# Altium integrated library Linear Technology PMIC-Switching Reg LTC1174-LTC3901.IntLib: 2647 symbols (part 144 of 310)
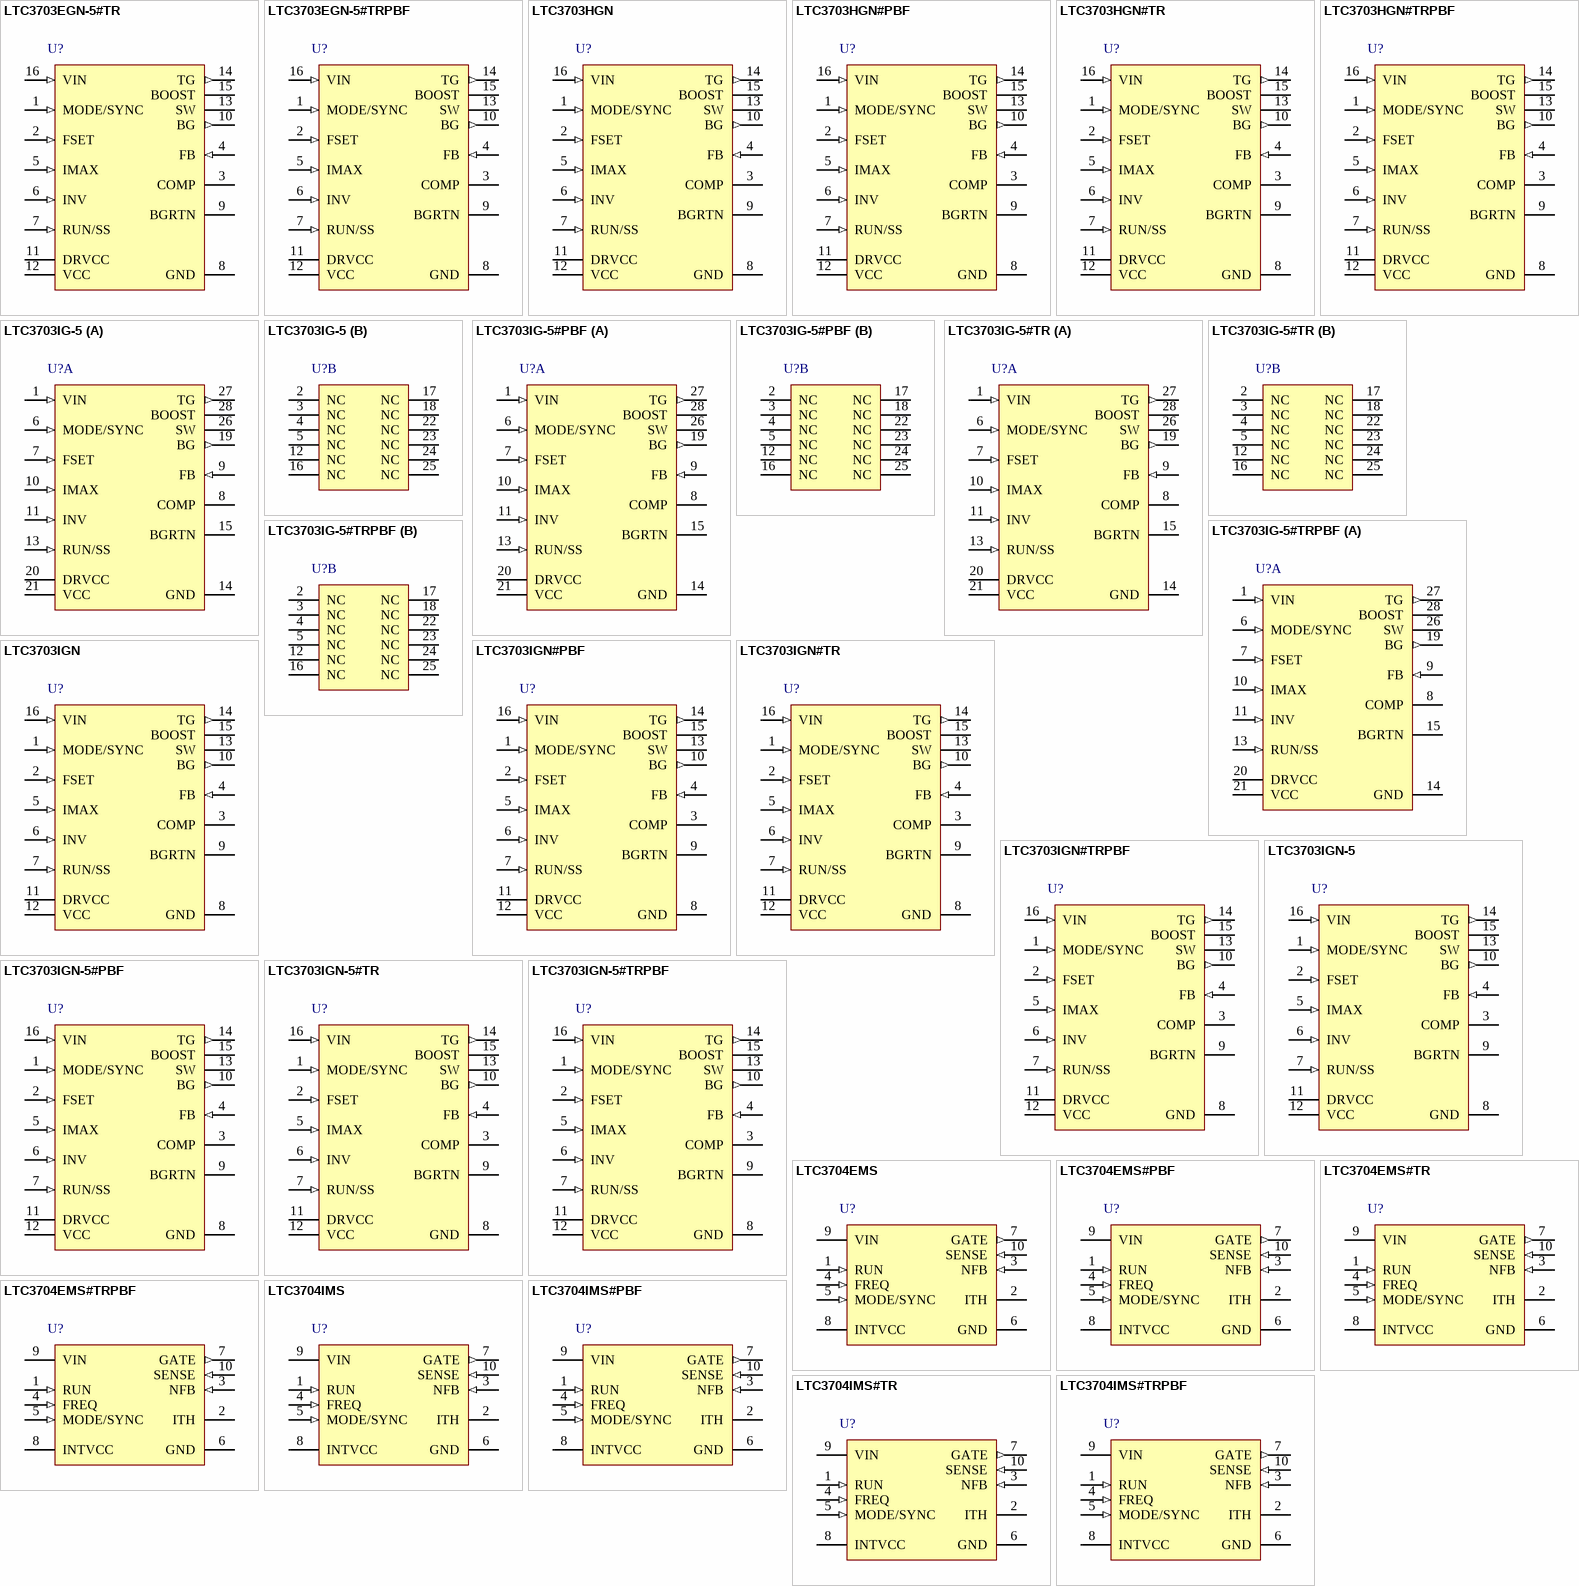
[diagram p197: symbols LTC3703EGN-5#TR to LTC3704IMS#TRPBF]

## LTC3703IG-5#TR
designator U?
Synchronous Switching Regulator Controller, 28-pin SOP (G-28), -40 to 125 degC, Tape and Reel; Manufacturer: Linear Technology; PartNumber: LTC3703IG-5#TR; Number of Outputs: 1; PackageReference: G-28; PackageDescription: 28-Pin Plastic SSOP, Body 10.2 x 5.3 mm, Pitch 0.65 mm; RoHS: FALSE
footprint LT-G-28_N (SOP, 28-Leads, Body 10.2x5.3mm, Pitch 0.65mm, IPC Medium Density)
footprint LT-G-28_L (SOP, 28-Leads, Body 10.2x5.3mm, Pitch 0.65mm, IPC High Density)
footprint LT-G-28_M (SOP, 28-Leads, Body 10.2x5.3mm, Pitch 0.65mm, IPC Low Density)
part A pins: 1 VIN (in) "Input Voltage Sense Pin. This pin is connected to the high voltage input of the regulator and is used by the internal feedforward compensation circuitry to improve line regulation. This is not a supply pin.", 6 MODE/SYNC (in) "Pulse Skip Mode Enable/Sync Pin. This multifunction pin provides Pulse Skip Mode enable/ disable control and an external clock input for synchronization of the internal oscillator. Pulling this pin below 0.8V or to an (See Datasheet)", 7 FSET (in) "Frequency Set. A resistor connected to this pin sets the free running frequency of the internal oscillator.", 8 COMP "Loop Compensation. This pin is connected directly to the output of the internal error amplifier. An RC network is used at the COMP pin to compensate the feedback loop for optimal transient response.", 9 FB (in) "Feedback Input. Connect FB through a resistor divider network to VOUT to set the output voltage. Also connect the loop compensation network from COMP to FB.", 10 IMAX (in) "Current Limit Set. The IMAX pin sets the current limit comparator threshold. If the voltage drop across the bottom MOSFET exceeds the magnitude of the voltage at IMAX, the controller goes into current limit. The IMAX pin has (See Datasheet)", 11 INV (in) "Top/Bottom Gate Invert. Pulling this pin above 2V sets the controller to operate in step-up (boost) mode with the TG output driving the synchronous MOSFET and the BG output driving the main switch. Below 1V, the controller (See Datasheet)", 13 RUN/SS (in) "Run/Soft-Start.", 14 GND (power) "Ground Pin.", 15 BGRTN "Bottom Gate Return. This pin connects to the source of the pull-down MOSFET in the BG driver and is normally connected to ground. Connecting a negative supply to this pin allows the synchronous MOSFET’s gate to be pulle(See Datasheet)", 19 BG (out) "Bottom Gate Drive. The BG pin drives the gate of the bottom N-channel synchronous switch MOSFET. This pin swings from BGRTN to DRVCC.", 20 DRVCC (power) "Driver Power Supply Pin. DRVCC provides power to the BG output driver. This pin should be connected to a voltage high enough to fully turn on the external MOSFETs, normally 4.5V to 15V for logic level threshold MOSFETs. (See Datasheet)", 21 VCC (power) "Main Supply Pin. All internal circuits except the output drivers are powered from this pin.", 26 SW "Switch Node Connection to Inductor and Bootstrap Capacitor. Voltage swing at this pin is from a Schottky diode (external) voltage drop below ground to VIN.", 27 TG (out) "Top Gate Drive. The TG pin drives the gate of the top N-channel synchronous switch MOSFET. The TG driver draws power from the BOOST pin and returns to the SW pin, providing true floating drive to the top MOSFET.", 28 BOOST "Top Gate Driver Supply. The BOOST pin supplies power to the floating TG driver. The BOOST pin should be bypassed to SW with a low ESR (X5R or better) 0.1uF ceramic capacitor. An additional fast recovery Schottky diode from (See Datasheet)"
part B pins: 2 NC, 3 NC, 4 NC, 5 NC, 12 NC, 16 NC, 17 NC, 18 NC, 22 NC, 23 NC, 24 NC, 25 NC

## LTC3703IG-5#TRPBF
designator U?
Synchronous Switching Regulator Controller, 28-pin SOP (G-28), -40 to 125 degC, Pb-Free, Tape and Reel; Manufacturer: Linear Technology; PartNumber: LTC3703IG-5#TRPBF; Number of Outputs: 1; PackageReference: G-28; PackageDescription: 28-Pin Plastic SSOP, Body 10.2 x 5.3 mm, Pitch 0.65 mm; Supplier 1: Digi-Key; Supplier Part Number 1: LTC3703IG-5#TRPBF-ND; RoHS: TRUE
footprint LT-G-28_N (SOP, 28-Leads, Body 10.2x5.3mm, Pitch 0.65mm, IPC Medium Density)
footprint LT-G-28_L (SOP, 28-Leads, Body 10.2x5.3mm, Pitch 0.65mm, IPC High Density)
footprint LT-G-28_M (SOP, 28-Leads, Body 10.2x5.3mm, Pitch 0.65mm, IPC Low Density)
part A pins: 1 VIN (in) "Input Voltage Sense Pin. This pin is connected to the high voltage input of the regulator and is used by the internal feedforward compensation circuitry to improve line regulation. This is not a supply pin.", 6 MODE/SYNC (in) "Pulse Skip Mode Enable/Sync Pin. This multifunction pin provides Pulse Skip Mode enable/ disable control and an external clock input for synchronization of the internal oscillator. Pulling this pin below 0.8V or to an (See Datasheet)", 7 FSET (in) "Frequency Set. A resistor connected to this pin sets the free running frequency of the internal oscillator.", 8 COMP "Loop Compensation. This pin is connected directly to the output of the internal error amplifier. An RC network is used at the COMP pin to compensate the feedback loop for optimal transient response.", 9 FB (in) "Feedback Input. Connect FB through a resistor divider network to VOUT to set the output voltage. Also connect the loop compensation network from COMP to FB.", 10 IMAX (in) "Current Limit Set. The IMAX pin sets the current limit comparator threshold. If the voltage drop across the bottom MOSFET exceeds the magnitude of the voltage at IMAX, the controller goes into current limit. The IMAX pin has (See Datasheet)", 11 INV (in) "Top/Bottom Gate Invert. Pulling this pin above 2V sets the controller to operate in step-up (boost) mode with the TG output driving the synchronous MOSFET and the BG output driving the main switch. Below 1V, the controller (See Datasheet)", 13 RUN/SS (in) "Run/Soft-Start.", 14 GND (power) "Ground Pin.", 15 BGRTN "Bottom Gate Return. This pin connects to the source of the pull-down MOSFET in the BG driver and is normally connected to ground. Connecting a negative supply to this pin allows the synchronous MOSFET’s gate to be pulle(See Datasheet)", 19 BG (out) "Bottom Gate Drive. The BG pin drives the gate of the bottom N-channel synchronous switch MOSFET. This pin swings from BGRTN to DRVCC.", 20 DRVCC (power) "Driver Power Supply Pin. DRVCC provides power to the BG output driver. This pin should be connected to a voltage high enough to fully turn on the external MOSFETs, normally 4.5V to 15V for logic level threshold MOSFETs. (See Datasheet)", 21 VCC (power) "Main Supply Pin. All internal circuits except the output drivers are powered from this pin.", 26 SW "Switch Node Connection to Inductor and Bootstrap Capacitor. Voltage swing at this pin is from a Schottky diode (external) voltage drop below ground to VIN.", 27 TG (out) "Top Gate Drive. The TG pin drives the gate of the top N-channel synchronous switch MOSFET. The TG driver draws power from the BOOST pin and returns to the SW pin, providing true floating drive to the top MOSFET.", 28 BOOST "Top Gate Driver Supply. The BOOST pin supplies power to the floating TG driver. The BOOST pin should be bypassed to SW with a low ESR (X5R or better) 0.1uF ceramic capacitor. An additional fast recovery Schottky diode from (See Datasheet)"
part B pins: 2 NC, 3 NC, 4 NC, 5 NC, 12 NC, 16 NC, 17 NC, 18 NC, 22 NC, 23 NC, 24 NC, 25 NC

## LTC3703IGN
designator U?
Synchronous Switching Regulator Controller, 16-pin SOP (GN-16), -40 to 150 degC; Manufacturer: Linear Technology; PartNumber: LTC3703IGN; Number of Outputs: 1; PackageReference: GN-16; PackageDescription: 16-Pin Plastic SSOP, Body 4.9 x 3.9 mm, Pitch 0.635 mm; RoHS: FALSE
footprint LT-GN-16_N (SOP, 16-Leads, Body 5x4mm, Pitch 0.635mm, IPC Medium Density)
footprint LT-GN-16_L (SOP, 16-Leads, Body 5x4mm, Pitch 0.635mm, IPC High Density)
footprint LT-GN-16_M (SOP, 16-Leads, Body 5x4mm, Pitch 0.635mm, IPC Low Density)
pins: 1 MODE/SYNC (in) "Pulse Skip Mode Enable/Sync Pin. This multifunction pin provides Pulse Skip Mode enable/disable control and an external clock input for synchronization of the internal oscillator. Pulling this pin below 0.8V or to an (See Datasheet)", 2 FSET (in) "Frequency Set. A resistor connected to this pin sets the free running frequency of the internal oscillator. See applications section for resistor value selection details.", 3 COMP "Loop Compensation. This pin is connected directly to the output of the internal error amplifier. An RC network is used at the COMP pin to compensate the feedback loop for optimal transient response.", 4 FB (in) "Feedback Input. Connect FB through a resistor divider network to VOUT to set the output voltage. Also connect the loop compensation network from COMP to FB.", 5 IMAX (in) "Current Limit Set. The IMAX pin sets the current limit comparator threshold. If the voltage drop across the bottom MOSFET exceeds the magnitude of the voltage at IMAX, the controller goes into current limit. The IMAX pin has (See Datasheet)", 6 INV (in) "Top/Bottom Gate Invert. Pulling this pin above 2V sets the controller to operate in step-up (boost) mode with the TG output driving the synchronous MOSFET and the BG output driving the main switch. Below 1V, the controller (See Datasheet)", 7 RUN/SS (in) "Run/Soft-Start. Pulling RUN/SS below 0.9V will shut down the LTC3703, turn off both of the external MOSFET switches and reduce the quiescent supply current to 50uA. A capacitor from RUN/SS to ground will control the turn-on (See Datasheet)", 8 GND (power) "Ground Pin.", 9 BGRTN "Bottom Gate Return. This pin connects to the source of the pull-down MOSFET in the BG driver and is normally connected to ground. Connecting negative supply to this pin allows the synchronous MOSFET’s gate to be pulle(See Datasheet)", 10 BG (out) "Bottom Gate Drive. The BG pin drives the gate of the bottom N-channel synchronous switch MOSFET. This pin swings from BGRTN to DRVCC.", 11 DRVCC (power) "Driver Power Supply Pin. DRVCC provides power to the BG output driver. This pin should be connected to a voltage high enough to fully turn on the external MOSFETs, normally 10V to 15V for logic level threshold MOSFETs. DRVCC (See Datasheet)", 12 VCC (power) "Main Supply Pin. All internal circuits except the output drivers are powered from this pin. VCC should be connected to a low noise power supply voltage between 9V and 15V and should be bypassed to GND (Pin 8) with at least a (See Datasheet)", 13 SW "Switch Node Connection to Inductor and Bootstrap Capacitor. Voltage swing at this pin is from a Schottky diode (external) voltage drop below ground VIN.", 14 TG (out) "Top Gate Drive. The TG pin drives the gate of the top N channel synchronous switch MOSFET. The TG driver draws power from the BOOST pin and returns the SW pin, providing true floating drive to the top MOSFET.", 15 BOOST "Top Gate Driver Supply. The BOOST pin supplies power to the floating TG driver. The BOOST pin should be bypassed to SW with a low ESR (X5R or better) 0.1uF ceramic capacitor. An additional fast recovery Schottky diode from (See Datasheet)", 16 VIN (in) "Input Voltage Sense Pin. This pin is connected to the high voltage input of the regulator and is used by the internal feedforward compensation circuitry to improve line regulation. This is not a supply pin."

## LTC3703IGN#PBF
designator U?
Synchronous Switching Regulator Controller, 16-pin SOP (GN-16), -40 to 150 degC, Pb-Free; Manufacturer: Linear Technology; PartNumber: LTC3703IGN#PBF; Number of Outputs: 1; PackageReference: GN-16; PackageDescription: 16-Pin Plastic SSOP, Body 4.9 x 3.9 mm, Pitch 0.635 mm; Supplier 1: Digi-Key; Supplier Part Number 1: LTC3703IGN#PBF-ND; RoHS: TRUE
footprint LT-GN-16_N (SOP, 16-Leads, Body 5x4mm, Pitch 0.635mm, IPC Medium Density)
footprint LT-GN-16_L (SOP, 16-Leads, Body 5x4mm, Pitch 0.635mm, IPC High Density)
footprint LT-GN-16_M (SOP, 16-Leads, Body 5x4mm, Pitch 0.635mm, IPC Low Density)
pins: 1 MODE/SYNC (in) "Pulse Skip Mode Enable/Sync Pin. This multifunction pin provides Pulse Skip Mode enable/disable control and an external clock input for synchronization of the internal oscillator. Pulling this pin below 0.8V or to an (See Datasheet)", 2 FSET (in) "Frequency Set. A resistor connected to this pin sets the free running frequency of the internal oscillator. See applications section for resistor value selection details.", 3 COMP "Loop Compensation. This pin is connected directly to the output of the internal error amplifier. An RC network is used at the COMP pin to compensate the feedback loop for optimal transient response.", 4 FB (in) "Feedback Input. Connect FB through a resistor divider network to VOUT to set the output voltage. Also connect the loop compensation network from COMP to FB.", 5 IMAX (in) "Current Limit Set. The IMAX pin sets the current limit comparator threshold. If the voltage drop across the bottom MOSFET exceeds the magnitude of the voltage at IMAX, the controller goes into current limit. The IMAX pin has (See Datasheet)", 6 INV (in) "Top/Bottom Gate Invert. Pulling this pin above 2V sets the controller to operate in step-up (boost) mode with the TG output driving the synchronous MOSFET and the BG output driving the main switch. Below 1V, the controller (See Datasheet)", 7 RUN/SS (in) "Run/Soft-Start. Pulling RUN/SS below 0.9V will shut down the LTC3703, turn off both of the external MOSFET switches and reduce the quiescent supply current to 50uA. A capacitor from RUN/SS to ground will control the turn-on (See Datasheet)", 8 GND (power) "Ground Pin.", 9 BGRTN "Bottom Gate Return. This pin connects to the source of the pull-down MOSFET in the BG driver and is normally connected to ground. Connecting negative supply to this pin allows the synchronous MOSFET’s gate to be pulle(See Datasheet)", 10 BG (out) "Bottom Gate Drive. The BG pin drives the gate of the bottom N-channel synchronous switch MOSFET. This pin swings from BGRTN to DRVCC.", 11 DRVCC (power) "Driver Power Supply Pin. DRVCC provides power to the BG output driver. This pin should be connected to a voltage high enough to fully turn on the external MOSFETs, normally 10V to 15V for logic level threshold MOSFETs. DRVCC (See Datasheet)", 12 VCC (power) "Main Supply Pin. All internal circuits except the output drivers are powered from this pin. VCC should be connected to a low noise power supply voltage between 9V and 15V and should be bypassed to GND (Pin 8) with at least a (See Datasheet)", 13 SW "Switch Node Connection to Inductor and Bootstrap Capacitor. Voltage swing at this pin is from a Schottky diode (external) voltage drop below ground VIN.", 14 TG (out) "Top Gate Drive. The TG pin drives the gate of the top N channel synchronous switch MOSFET. The TG driver draws power from the BOOST pin and returns the SW pin, providing true floating drive to the top MOSFET.", 15 BOOST "Top Gate Driver Supply. The BOOST pin supplies power to the floating TG driver. The BOOST pin should be bypassed to SW with a low ESR (X5R or better) 0.1uF ceramic capacitor. An additional fast recovery Schottky diode from (See Datasheet)", 16 VIN (in) "Input Voltage Sense Pin. This pin is connected to the high voltage input of the regulator and is used by the internal feedforward compensation circuitry to improve line regulation. This is not a supply pin."

## LTC3703IGN#TR
designator U?
Synchronous Switching Regulator Controller, 16-pin SOP (GN-16), -40 to 150 degC, Tape and Reel; Manufacturer: Linear Technology; PartNumber: LTC3703IGN#TR; Number of Outputs: 1; PackageReference: GN-16; PackageDescription: 16-Pin Plastic SSOP, Body 4.9 x 3.9 mm, Pitch 0.635 mm; RoHS: FALSE
footprint LT-GN-16_N (SOP, 16-Leads, Body 5x4mm, Pitch 0.635mm, IPC Medium Density)
footprint LT-GN-16_L (SOP, 16-Leads, Body 5x4mm, Pitch 0.635mm, IPC High Density)
footprint LT-GN-16_M (SOP, 16-Leads, Body 5x4mm, Pitch 0.635mm, IPC Low Density)
pins: 1 MODE/SYNC (in) "Pulse Skip Mode Enable/Sync Pin. This multifunction pin provides Pulse Skip Mode enable/disable control and an external clock input for synchronization of the internal oscillator. Pulling this pin below 0.8V or to an (See Datasheet)", 2 FSET (in) "Frequency Set. A resistor connected to this pin sets the free running frequency of the internal oscillator. See applications section for resistor value selection details.", 3 COMP "Loop Compensation. This pin is connected directly to the output of the internal error amplifier. An RC network is used at the COMP pin to compensate the feedback loop for optimal transient response.", 4 FB (in) "Feedback Input. Connect FB through a resistor divider network to VOUT to set the output voltage. Also connect the loop compensation network from COMP to FB.", 5 IMAX (in) "Current Limit Set. The IMAX pin sets the current limit comparator threshold. If the voltage drop across the bottom MOSFET exceeds the magnitude of the voltage at IMAX, the controller goes into current limit. The IMAX pin has (See Datasheet)", 6 INV (in) "Top/Bottom Gate Invert. Pulling this pin above 2V sets the controller to operate in step-up (boost) mode with the TG output driving the synchronous MOSFET and the BG output driving the main switch. Below 1V, the controller (See Datasheet)", 7 RUN/SS (in) "Run/Soft-Start. Pulling RUN/SS below 0.9V will shut down the LTC3703, turn off both of the external MOSFET switches and reduce the quiescent supply current to 50uA. A capacitor from RUN/SS to ground will control the turn-on (See Datasheet)", 8 GND (power) "Ground Pin.", 9 BGRTN "Bottom Gate Return. This pin connects to the source of the pull-down MOSFET in the BG driver and is normally connected to ground. Connecting negative supply to this pin allows the synchronous MOSFET’s gate to be pulle(See Datasheet)", 10 BG (out) "Bottom Gate Drive. The BG pin drives the gate of the bottom N-channel synchronous switch MOSFET. This pin swings from BGRTN to DRVCC.", 11 DRVCC (power) "Driver Power Supply Pin. DRVCC provides power to the BG output driver. This pin should be connected to a voltage high enough to fully turn on the external MOSFETs, normally 10V to 15V for logic level threshold MOSFETs. DRVCC (See Datasheet)", 12 VCC (power) "Main Supply Pin. All internal circuits except the output drivers are powered from this pin. VCC should be connected to a low noise power supply voltage between 9V and 15V and should be bypassed to GND (Pin 8) with at least a (See Datasheet)", 13 SW "Switch Node Connection to Inductor and Bootstrap Capacitor. Voltage swing at this pin is from a Schottky diode (external) voltage drop below ground VIN.", 14 TG (out) "Top Gate Drive. The TG pin drives the gate of the top N channel synchronous switch MOSFET. The TG driver draws power from the BOOST pin and returns the SW pin, providing true floating drive to the top MOSFET.", 15 BOOST "Top Gate Driver Supply. The BOOST pin supplies power to the floating TG driver. The BOOST pin should be bypassed to SW with a low ESR (X5R or better) 0.1uF ceramic capacitor. An additional fast recovery Schottky diode from (See Datasheet)", 16 VIN (in) "Input Voltage Sense Pin. This pin is connected to the high voltage input of the regulator and is used by the internal feedforward compensation circuitry to improve line regulation. This is not a supply pin."

## LTC3703IGN#TRPBF
designator U?
Synchronous Switching Regulator Controller, 16-pin SOP (GN-16), -40 to 150 degC, Pb-Free, Tape and Reel; Manufacturer: Linear Technology; PartNumber: LTC3703IGN#TRPBF; Number of Outputs: 1; PackageReference: GN-16; PackageDescription: 16-Pin Plastic SSOP, Body 4.9 x 3.9 mm, Pitch 0.635 mm; Supplier 1: Digi-Key; Supplier Part Number 1: LTC3703IGN#TRPBF-ND; RoHS: TRUE
footprint LT-GN-16_N (SOP, 16-Leads, Body 5x4mm, Pitch 0.635mm, IPC Medium Density)
footprint LT-GN-16_L (SOP, 16-Leads, Body 5x4mm, Pitch 0.635mm, IPC High Density)
footprint LT-GN-16_M (SOP, 16-Leads, Body 5x4mm, Pitch 0.635mm, IPC Low Density)
pins: 1 MODE/SYNC (in) "Pulse Skip Mode Enable/Sync Pin. This multifunction pin provides Pulse Skip Mode enable/disable control and an external clock input for synchronization of the internal oscillator. Pulling this pin below 0.8V or to an (See Datasheet)", 2 FSET (in) "Frequency Set. A resistor connected to this pin sets the free running frequency of the internal oscillator. See applications section for resistor value selection details.", 3 COMP "Loop Compensation. This pin is connected directly to the output of the internal error amplifier. An RC network is used at the COMP pin to compensate the feedback loop for optimal transient response.", 4 FB (in) "Feedback Input. Connect FB through a resistor divider network to VOUT to set the output voltage. Also connect the loop compensation network from COMP to FB.", 5 IMAX (in) "Current Limit Set. The IMAX pin sets the current limit comparator threshold. If the voltage drop across the bottom MOSFET exceeds the magnitude of the voltage at IMAX, the controller goes into current limit. The IMAX pin has (See Datasheet)", 6 INV (in) "Top/Bottom Gate Invert. Pulling this pin above 2V sets the controller to operate in step-up (boost) mode with the TG output driving the synchronous MOSFET and the BG output driving the main switch. Below 1V, the controller (See Datasheet)", 7 RUN/SS (in) "Run/Soft-Start. Pulling RUN/SS below 0.9V will shut down the LTC3703, turn off both of the external MOSFET switches and reduce the quiescent supply current to 50uA. A capacitor from RUN/SS to ground will control the turn-on (See Datasheet)", 8 GND (power) "Ground Pin.", 9 BGRTN "Bottom Gate Return. This pin connects to the source of the pull-down MOSFET in the BG driver and is normally connected to ground. Connecting negative supply to this pin allows the synchronous MOSFET’s gate to be pulle(See Datasheet)", 10 BG (out) "Bottom Gate Drive. The BG pin drives the gate of the bottom N-channel synchronous switch MOSFET. This pin swings from BGRTN to DRVCC.", 11 DRVCC (power) "Driver Power Supply Pin. DRVCC provides power to the BG output driver. This pin should be connected to a voltage high enough to fully turn on the external MOSFETs, normally 10V to 15V for logic level threshold MOSFETs. DRVCC (See Datasheet)", 12 VCC (power) "Main Supply Pin. All internal circuits except the output drivers are powered from this pin. VCC should be connected to a low noise power supply voltage between 9V and 15V and should be bypassed to GND (Pin 8) with at least a (See Datasheet)", 13 SW "Switch Node Connection to Inductor and Bootstrap Capacitor. Voltage swing at this pin is from a Schottky diode (external) voltage drop below ground VIN.", 14 TG (out) "Top Gate Drive. The TG pin drives the gate of the top N channel synchronous switch MOSFET. The TG driver draws power from the BOOST pin and returns the SW pin, providing true floating drive to the top MOSFET.", 15 BOOST "Top Gate Driver Supply. The BOOST pin supplies power to the floating TG driver. The BOOST pin should be bypassed to SW with a low ESR (X5R or better) 0.1uF ceramic capacitor. An additional fast recovery Schottky diode from (See Datasheet)", 16 VIN (in) "Input Voltage Sense Pin. This pin is connected to the high voltage input of the regulator and is used by the internal feedforward compensation circuitry to improve line regulation. This is not a supply pin."

## LTC3703IGN-5
designator U?
Synchronous Switching Regulator Controller, 16-pin SOP (GN-16), -40 to 125 degC; Manufacturer: Linear Technology; PartNumber: LTC3703IGN-5; Number of Outputs: 1; PackageReference: GN-16; PackageDescription: 16-Pin Plastic SSOP, Body 4.9 x 3.9 mm, Pitch 0.635 mm; Supplier 1: Newark; Supplier Part Number 1: 56M8065; RoHS: FALSE
footprint LT-GN-16_N (SOP, 16-Leads, Body 5x4mm, Pitch 0.635mm, IPC Medium Density)
footprint LT-GN-16_L (SOP, 16-Leads, Body 5x4mm, Pitch 0.635mm, IPC High Density)
footprint LT-GN-16_M (SOP, 16-Leads, Body 5x4mm, Pitch 0.635mm, IPC Low Density)
pins: 1 MODE/SYNC (in) "Pulse Skip Mode Enable/Sync Pin. This multifunction pin provides Pulse Skip Mode enable/disable control and an external clock input for synchronization of the internal oscillator. Pulling this pin below 0.8V or to an (See Datasheet)", 2 FSET (in) "Frequency Set. A resistor connected to this pin sets the free running frequency of the internal oscillator. See applications section for resistor value selection details.", 3 COMP "Loop Compensation. This pin is connected directly to the output of the internal error amplifier. An RC network is used at the COMP pin to compensate the feedback loop for optimal transient response.", 4 FB (in) "Feedback Input. Connect FB through a resistor divider network to VOUT to set the output voltage. Also connect the loop compensation network from COMP to FB.", 5 IMAX (in) "Current Limit Set. The IMAX pin sets the current limit comparator threshold. If the voltage drop across the bottom MOSFET exceeds the magnitude of the voltage at IMAX, the controller goes into current limit. The IMAX pin has (See Datasheet)", 6 INV (in) "Top/Bottom Gate Invert. Pulling this pin above 2V sets the controller to operate in step-up (boost) mode with the TG output driving the synchronous MOSFET and the BG output driving the main switch. Below 1V, the controller (See Datasheet)", 7 RUN/SS (in) "Run/Soft-Start. Pulling RUN/SS below 0.9V will shut down the LTC3703-5, turn off both of the external MOSFET switches and reduce the quiescent supply current to 25uA. A capacitor from RUN/SS to ground will control the (See Datasheet)", 8 GND (power) "Ground Pin.", 9 BGRTN "Bottom Gate Return. This pin connects to the source of the pull-down MOSFET in the BG driver and is normally connected to ground. Connecting negative supply to this pin allows the synchronous MOSFET’s gate to be pulle(See Datasheet)", 10 BG (out) "Bottom Gate Drive. The BG pin drives the gate of the bottom N-channel synchronous switch MOSFET. This pin swings from BGRTN to DRVCC.", 11 DRVCC (power) "Driver Power Supply Pin. DRVCC provides power to the BG output driver. This pin should be connected to a voltage high enough to fully turn on the external MOSFETs, normally 4.5V to 15V for logic level threshold MOSFETs. (See Datasheet)", 12 VCC (power) "Main Supply Pin. All internal circuits except the output drivers are powered from this pin. VCC should be connected to a low noise power supply voltage between 4.5V and 15V and should be bypassed to GND (Pin 8) with at least (See Datasheet)", 13 SW "Switch Node Connection to Inductor and Bootstrap Capacitor. Voltage swing at this pin is from a Schottky diode (external) voltage drop below ground VIN.", 14 TG (out) "Top Gate Drive. The TG pin drives the gate of the top N channel synchronous switch MOSFET. The TG driver draws power from the BOOST pin and returns the SW pin, providing true floating drive to the top MOSFET.", 15 BOOST "Top Gate Driver Supply. The BOOST pin supplies power to the floating TG driver. The BOOST pin should be bypassed to SW with a low ESR (X5R or better) 0.1uF ceramic capacitor. An additional fast recovery Schottky diode from (See Datasheet)", 16 VIN (in) "Input Voltage Sense Pin. This pin is connected to the high voltage input of the regulator and is used by the internal feedforward compensation circuitry to improve line regulation. This is not a supply pin."

## LTC3703IGN-5#PBF
designator U?
Synchronous Switching Regulator Controller, 16-pin SOP (GN-16), -40 to 125 degC, Pb-Free; Manufacturer: Linear Technology; PartNumber: LTC3703IGN-5#PBF; Number of Outputs: 1; PackageReference: GN-16; PackageDescription: 16-Pin Plastic SSOP, Body 4.9 x 3.9 mm, Pitch 0.635 mm; Supplier 1: Digi-Key; Supplier Part Number 1: LTC3703IGN-5#PBF-ND; RoHS: TRUE
footprint LT-GN-16_N (SOP, 16-Leads, Body 5x4mm, Pitch 0.635mm, IPC Medium Density)
footprint LT-GN-16_L (SOP, 16-Leads, Body 5x4mm, Pitch 0.635mm, IPC High Density)
footprint LT-GN-16_M (SOP, 16-Leads, Body 5x4mm, Pitch 0.635mm, IPC Low Density)
pins: 1 MODE/SYNC (in) "Pulse Skip Mode Enable/Sync Pin. This multifunction pin provides Pulse Skip Mode enable/disable control and an external clock input for synchronization of the internal oscillator. Pulling this pin below 0.8V or to an (See Datasheet)", 2 FSET (in) "Frequency Set. A resistor connected to this pin sets the free running frequency of the internal oscillator. See applications section for resistor value selection details.", 3 COMP "Loop Compensation. This pin is connected directly to the output of the internal error amplifier. An RC network is used at the COMP pin to compensate the feedback loop for optimal transient response.", 4 FB (in) "Feedback Input. Connect FB through a resistor divider network to VOUT to set the output voltage. Also connect the loop compensation network from COMP to FB.", 5 IMAX (in) "Current Limit Set. The IMAX pin sets the current limit comparator threshold. If the voltage drop across the bottom MOSFET exceeds the magnitude of the voltage at IMAX, the controller goes into current limit. The IMAX pin has (See Datasheet)", 6 INV (in) "Top/Bottom Gate Invert. Pulling this pin above 2V sets the controller to operate in step-up (boost) mode with the TG output driving the synchronous MOSFET and the BG output driving the main switch. Below 1V, the controller (See Datasheet)", 7 RUN/SS (in) "Run/Soft-Start. Pulling RUN/SS below 0.9V will shut down the LTC3703-5, turn off both of the external MOSFET switches and reduce the quiescent supply current to 25uA. A capacitor from RUN/SS to ground will control the (See Datasheet)", 8 GND (power) "Ground Pin.", 9 BGRTN "Bottom Gate Return. This pin connects to the source of the pull-down MOSFET in the BG driver and is normally connected to ground. Connecting negative supply to this pin allows the synchronous MOSFET’s gate to be pulle(See Datasheet)", 10 BG (out) "Bottom Gate Drive. The BG pin drives the gate of the bottom N-channel synchronous switch MOSFET. This pin swings from BGRTN to DRVCC.", 11 DRVCC (power) "Driver Power Supply Pin. DRVCC provides power to the BG output driver. This pin should be connected to a voltage high enough to fully turn on the external MOSFETs, normally 4.5V to 15V for logic level threshold MOSFETs. (See Datasheet)", 12 VCC (power) "Main Supply Pin. All internal circuits except the output drivers are powered from this pin. VCC should be connected to a low noise power supply voltage between 4.5V and 15V and should be bypassed to GND (Pin 8) with at least (See Datasheet)", 13 SW "Switch Node Connection to Inductor and Bootstrap Capacitor. Voltage swing at this pin is from a Schottky diode (external) voltage drop below ground VIN.", 14 TG (out) "Top Gate Drive. The TG pin drives the gate of the top N channel synchronous switch MOSFET. The TG driver draws power from the BOOST pin and returns the SW pin, providing true floating drive to the top MOSFET.", 15 BOOST "Top Gate Driver Supply. The BOOST pin supplies power to the floating TG driver. The BOOST pin should be bypassed to SW with a low ESR (X5R or better) 0.1uF ceramic capacitor. An additional fast recovery Schottky diode from (See Datasheet)", 16 VIN (in) "Input Voltage Sense Pin. This pin is connected to the high voltage input of the regulator and is used by the internal feedforward compensation circuitry to improve line regulation. This is not a supply pin."

## LTC3703IGN-5#TR
designator U?
Synchronous Switching Regulator Controller, 16-pin SOP (GN-16), -40 to 125 degC, Tape and Reel; Manufacturer: Linear Technology; PartNumber: LTC3703IGN-5#TR; Number of Outputs: 1; PackageReference: GN-16; PackageDescription: 16-Pin Plastic SSOP, Body 4.9 x 3.9 mm, Pitch 0.635 mm; RoHS: FALSE
footprint LT-GN-16_N (SOP, 16-Leads, Body 5x4mm, Pitch 0.635mm, IPC Medium Density)
footprint LT-GN-16_L (SOP, 16-Leads, Body 5x4mm, Pitch 0.635mm, IPC High Density)
footprint LT-GN-16_M (SOP, 16-Leads, Body 5x4mm, Pitch 0.635mm, IPC Low Density)
pins: 1 MODE/SYNC (in) "Pulse Skip Mode Enable/Sync Pin. This multifunction pin provides Pulse Skip Mode enable/disable control and an external clock input for synchronization of the internal oscillator. Pulling this pin below 0.8V or to an (See Datasheet)", 2 FSET (in) "Frequency Set. A resistor connected to this pin sets the free running frequency of the internal oscillator. See applications section for resistor value selection details.", 3 COMP "Loop Compensation. This pin is connected directly to the output of the internal error amplifier. An RC network is used at the COMP pin to compensate the feedback loop for optimal transient response.", 4 FB (in) "Feedback Input. Connect FB through a resistor divider network to VOUT to set the output voltage. Also connect the loop compensation network from COMP to FB.", 5 IMAX (in) "Current Limit Set. The IMAX pin sets the current limit comparator threshold. If the voltage drop across the bottom MOSFET exceeds the magnitude of the voltage at IMAX, the controller goes into current limit. The IMAX pin has (See Datasheet)", 6 INV (in) "Top/Bottom Gate Invert. Pulling this pin above 2V sets the controller to operate in step-up (boost) mode with the TG output driving the synchronous MOSFET and the BG output driving the main switch. Below 1V, the controller (See Datasheet)", 7 RUN/SS (in) "Run/Soft-Start. Pulling RUN/SS below 0.9V will shut down the LTC3703-5, turn off both of the external MOSFET switches and reduce the quiescent supply current to 25uA. A capacitor from RUN/SS to ground will control the (See Datasheet)", 8 GND (power) "Ground Pin.", 9 BGRTN "Bottom Gate Return. This pin connects to the source of the pull-down MOSFET in the BG driver and is normally connected to ground. Connecting negative supply to this pin allows the synchronous MOSFET’s gate to be pulle(See Datasheet)", 10 BG (out) "Bottom Gate Drive. The BG pin drives the gate of the bottom N-channel synchronous switch MOSFET. This pin swings from BGRTN to DRVCC.", 11 DRVCC (power) "Driver Power Supply Pin. DRVCC provides power to the BG output driver. This pin should be connected to a voltage high enough to fully turn on the external MOSFETs, normally 4.5V to 15V for logic level threshold MOSFETs. (See Datasheet)", 12 VCC (power) "Main Supply Pin. All internal circuits except the output drivers are powered from this pin. VCC should be connected to a low noise power supply voltage between 4.5V and 15V and should be bypassed to GND (Pin 8) with at least (See Datasheet)", 13 SW "Switch Node Connection to Inductor and Bootstrap Capacitor. Voltage swing at this pin is from a Schottky diode (external) voltage drop below ground VIN.", 14 TG (out) "Top Gate Drive. The TG pin drives the gate of the top N channel synchronous switch MOSFET. The TG driver draws power from the BOOST pin and returns the SW pin, providing true floating drive to the top MOSFET.", 15 BOOST "Top Gate Driver Supply. The BOOST pin supplies power to the floating TG driver. The BOOST pin should be bypassed to SW with a low ESR (X5R or better) 0.1uF ceramic capacitor. An additional fast recovery Schottky diode from (See Datasheet)", 16 VIN (in) "Input Voltage Sense Pin. This pin is connected to the high voltage input of the regulator and is used by the internal feedforward compensation circuitry to improve line regulation. This is not a supply pin."

## LTC3703IGN-5#TRPBF
designator U?
Synchronous Switching Regulator Controller, 16-pin SOP (GN-16), -40 to 125 degC, Pb-Free, Tape and Reel; Manufacturer: Linear Technology; PartNumber: LTC3703IGN-5#TRPBF; Number of Outputs: 1; PackageReference: GN-16; PackageDescription: 16-Pin Plastic SSOP, Body 4.9 x 3.9 mm, Pitch 0.635 mm; Supplier 1: Digi-Key; Supplier Part Number 1: LTC3703IGN-5#TRPBF-ND; RoHS: TRUE
footprint LT-GN-16_N (SOP, 16-Leads, Body 5x4mm, Pitch 0.635mm, IPC Medium Density)
footprint LT-GN-16_L (SOP, 16-Leads, Body 5x4mm, Pitch 0.635mm, IPC High Density)
footprint LT-GN-16_M (SOP, 16-Leads, Body 5x4mm, Pitch 0.635mm, IPC Low Density)
pins: 1 MODE/SYNC (in) "Pulse Skip Mode Enable/Sync Pin. This multifunction pin provides Pulse Skip Mode enable/disable control and an external clock input for synchronization of the internal oscillator. Pulling this pin below 0.8V or to an (See Datasheet)", 2 FSET (in) "Frequency Set. A resistor connected to this pin sets the free running frequency of the internal oscillator. See applications section for resistor value selection details.", 3 COMP "Loop Compensation. This pin is connected directly to the output of the internal error amplifier. An RC network is used at the COMP pin to compensate the feedback loop for optimal transient response.", 4 FB (in) "Feedback Input. Connect FB through a resistor divider network to VOUT to set the output voltage. Also connect the loop compensation network from COMP to FB.", 5 IMAX (in) "Current Limit Set. The IMAX pin sets the current limit comparator threshold. If the voltage drop across the bottom MOSFET exceeds the magnitude of the voltage at IMAX, the controller goes into current limit. The IMAX pin has (See Datasheet)", 6 INV (in) "Top/Bottom Gate Invert. Pulling this pin above 2V sets the controller to operate in step-up (boost) mode with the TG output driving the synchronous MOSFET and the BG output driving the main switch. Below 1V, the controller (See Datasheet)", 7 RUN/SS (in) "Run/Soft-Start. Pulling RUN/SS below 0.9V will shut down the LTC3703-5, turn off both of the external MOSFET switches and reduce the quiescent supply current to 25uA. A capacitor from RUN/SS to ground will control the (See Datasheet)", 8 GND (power) "Ground Pin.", 9 BGRTN "Bottom Gate Return. This pin connects to the source of the pull-down MOSFET in the BG driver and is normally connected to ground. Connecting negative supply to this pin allows the synchronous MOSFET’s gate to be pulle(See Datasheet)", 10 BG (out) "Bottom Gate Drive. The BG pin drives the gate of the bottom N-channel synchronous switch MOSFET. This pin swings from BGRTN to DRVCC.", 11 DRVCC (power) "Driver Power Supply Pin. DRVCC provides power to the BG output driver. This pin should be connected to a voltage high enough to fully turn on the external MOSFETs, normally 4.5V to 15V for logic level threshold MOSFETs. (See Datasheet)", 12 VCC (power) "Main Supply Pin. All internal circuits except the output drivers are powered from this pin. VCC should be connected to a low noise power supply voltage between 4.5V and 15V and should be bypassed to GND (Pin 8) with at least (See Datasheet)", 13 SW "Switch Node Connection to Inductor and Bootstrap Capacitor. Voltage swing at this pin is from a Schottky diode (external) voltage drop below ground VIN.", 14 TG (out) "Top Gate Drive. The TG pin drives the gate of the top N channel synchronous switch MOSFET. The TG driver draws power from the BOOST pin and returns the SW pin, providing true floating drive to the top MOSFET.", 15 BOOST "Top Gate Driver Supply. The BOOST pin supplies power to the floating TG driver. The BOOST pin should be bypassed to SW with a low ESR (X5R or better) 0.1uF ceramic capacitor. An additional fast recovery Schottky diode from (See Datasheet)", 16 VIN (in) "Input Voltage Sense Pin. This pin is connected to the high voltage input of the regulator and is used by the internal feedforward compensation circuitry to improve line regulation. This is not a supply pin."

## LTC3704EMS
designator U?
Positive to Negative Converter, 10-pin SOP (MS-10), -40 to 85 degC; Manufacturer: Linear Technology; PartNumber: LTC3704EMS; Number of Outputs: 1; PackageReference: MS-10; PackageDescription: 10-Pin Plastic MSOP, Body 3 x 3 mm, Pitch 0.5 mm; Supplier 1: Digi-Key; Supplier Part Number 1: LTC3704EMS-ND; RoHS: FALSE
footprint LT-MS-10_N (SOP, 10-Leads, Body 3.1x3.1mm, Pitch 0.5mm, IPC Medium Density)
footprint LT-MS-10_L (SOP, 10-Leads, Body 3.1x3.1mm, Pitch 0.5mm, IPC High Density)
footprint LT-MS-10_M (SOP, 10-Leads, Body 3.1x3.1mm, Pitch 0.5mm, IPC Low Density)
pins: 1 RUN (in) "The RUN pin provides the user with an accurate means for sensing the input voltage and programming the start-up threshold for the converter. The falling RUN pin threshold is nominally 1.248V and the comparator has 100mV of (See Datasheet)", 2 ITH "Error Amplifier Compensation Pin. The current comparator input threshold increases with this control voltage. Nominal voltage range for this pin is 0V to 1.40V.", 3 NFB (in) "Receives the feedback voltage from the external resistor divider across the output. Nominal voltage for this pin in regulation is -1.230V.", 4 FREQ (in) "A resistor from the FREQ pin to ground programs the operating frequency of the chip. The nominal voltage at the FREQ pin is 0.62V.", 5 MODE/SYNC (in) "This input controls the operating mode of the converter and allows for synchronizing the operating frequency to an external clock. If the MODE/SYNC pin is connected to ground, Burst Mode operation is enabled. If the (See Datasheet)", 6 GND (power) "Ground Pin.", 7 GATE (out) "Gate Driver Output.", 8 INTVCC (power) "The Internal 5.20V Regulator Output. The gate driver and control circuits are powered from this voltage. Decouple this pin locally to the IC ground with a minimum of 4.7uF low ESR tantalum or ceramic capacitor.", 9 VIN (power) "Main Supply Pin. Must be closely decoupled to ground.", 10 SENSE (in) "The Current Sense Input for the Control Loop. Connect this pin to the drain of the power MOSFET for VDS sensing and highest efficiency. Alternatively, the SENSE pin may be connected to a resistor in the source of the power (See Datasheet)"

## LTC3704EMS#PBF
designator U?
Positive to Negative Converter, 10-pin SOP (MS-10), -40 to 85 degC, Pb-Free; Manufacturer: Linear Technology; PartNumber: LTC3704EMS#PBF; Number of Outputs: 1; PackageReference: MS-10; PackageDescription: 10-Pin Plastic MSOP, Body 3 x 3 mm, Pitch 0.5 mm; Supplier 1: Digi-Key; Supplier Part Number 1: LTC3704EMS#PBF-ND; RoHS: TRUE
footprint LT-MS-10_N (SOP, 10-Leads, Body 3.1x3.1mm, Pitch 0.5mm, IPC Medium Density)
footprint LT-MS-10_L (SOP, 10-Leads, Body 3.1x3.1mm, Pitch 0.5mm, IPC High Density)
footprint LT-MS-10_M (SOP, 10-Leads, Body 3.1x3.1mm, Pitch 0.5mm, IPC Low Density)
pins: 1 RUN (in) "The RUN pin provides the user with an accurate means for sensing the input voltage and programming the start-up threshold for the converter. The falling RUN pin threshold is nominally 1.248V and the comparator has 100mV of (See Datasheet)", 2 ITH "Error Amplifier Compensation Pin. The current comparator input threshold increases with this control voltage. Nominal voltage range for this pin is 0V to 1.40V.", 3 NFB (in) "Receives the feedback voltage from the external resistor divider across the output. Nominal voltage for this pin in regulation is -1.230V.", 4 FREQ (in) "A resistor from the FREQ pin to ground programs the operating frequency of the chip. The nominal voltage at the FREQ pin is 0.62V.", 5 MODE/SYNC (in) "This input controls the operating mode of the converter and allows for synchronizing the operating frequency to an external clock. If the MODE/SYNC pin is connected to ground, Burst Mode operation is enabled. If the (See Datasheet)", 6 GND (power) "Ground Pin.", 7 GATE (out) "Gate Driver Output.", 8 INTVCC (power) "The Internal 5.20V Regulator Output. The gate driver and control circuits are powered from this voltage. Decouple this pin locally to the IC ground with a minimum of 4.7uF low ESR tantalum or ceramic capacitor.", 9 VIN (power) "Main Supply Pin. Must be closely decoupled to ground.", 10 SENSE (in) "The Current Sense Input for the Control Loop. Connect this pin to the drain of the power MOSFET for VDS sensing and highest efficiency. Alternatively, the SENSE pin may be connected to a resistor in the source of the power (See Datasheet)"

## LTC3704EMS#TR
designator U?
Positive to Negative Converter, 10-pin SOP (MS-10), -40 to 85 degC, Tape and Reel; Manufacturer: Linear Technology; PartNumber: LTC3704EMS#TR; Number of Outputs: 1; PackageReference: MS-10; PackageDescription: 10-Pin Plastic MSOP, Body 3 x 3 mm, Pitch 0.5 mm; Supplier 1: Digi-Key; Supplier Part Number 1: LTC3704EMSTR-ND; RoHS: FALSE
footprint LT-MS-10_N (SOP, 10-Leads, Body 3.1x3.1mm, Pitch 0.5mm, IPC Medium Density)
footprint LT-MS-10_L (SOP, 10-Leads, Body 3.1x3.1mm, Pitch 0.5mm, IPC High Density)
footprint LT-MS-10_M (SOP, 10-Leads, Body 3.1x3.1mm, Pitch 0.5mm, IPC Low Density)
pins: 1 RUN (in) "The RUN pin provides the user with an accurate means for sensing the input voltage and programming the start-up threshold for the converter. The falling RUN pin threshold is nominally 1.248V and the comparator has 100mV of (See Datasheet)", 2 ITH "Error Amplifier Compensation Pin. The current comparator input threshold increases with this control voltage. Nominal voltage range for this pin is 0V to 1.40V.", 3 NFB (in) "Receives the feedback voltage from the external resistor divider across the output. Nominal voltage for this pin in regulation is -1.230V.", 4 FREQ (in) "A resistor from the FREQ pin to ground programs the operating frequency of the chip. The nominal voltage at the FREQ pin is 0.62V.", 5 MODE/SYNC (in) "This input controls the operating mode of the converter and allows for synchronizing the operating frequency to an external clock. If the MODE/SYNC pin is connected to ground, Burst Mode operation is enabled. If the (See Datasheet)", 6 GND (power) "Ground Pin.", 7 GATE (out) "Gate Driver Output.", 8 INTVCC (power) "The Internal 5.20V Regulator Output. The gate driver and control circuits are powered from this voltage. Decouple this pin locally to the IC ground with a minimum of 4.7uF low ESR tantalum or ceramic capacitor.", 9 VIN (power) "Main Supply Pin. Must be closely decoupled to ground.", 10 SENSE (in) "The Current Sense Input for the Control Loop. Connect this pin to the drain of the power MOSFET for VDS sensing and highest efficiency. Alternatively, the SENSE pin may be connected to a resistor in the source of the power (See Datasheet)"

## LTC3704EMS#TRPBF
designator U?
Positive to Negative Converter, 10-pin SOP (MS-10), -40 to 85 degC, Pb-Free, Tape and Reel; Manufacturer: Linear Technology; PartNumber: LTC3704EMS#TRPBF; Number of Outputs: 1; PackageReference: MS-10; PackageDescription: 10-Pin Plastic MSOP, Body 3 x 3 mm, Pitch 0.5 mm; Supplier 1: Digi-Key; Supplier Part Number 1: LTC3704EMS#TRPBF-ND; RoHS: TRUE
footprint LT-MS-10_N (SOP, 10-Leads, Body 3.1x3.1mm, Pitch 0.5mm, IPC Medium Density)
footprint LT-MS-10_L (SOP, 10-Leads, Body 3.1x3.1mm, Pitch 0.5mm, IPC High Density)
footprint LT-MS-10_M (SOP, 10-Leads, Body 3.1x3.1mm, Pitch 0.5mm, IPC Low Density)
pins: 1 RUN (in) "The RUN pin provides the user with an accurate means for sensing the input voltage and programming the start-up threshold for the converter. The falling RUN pin threshold is nominally 1.248V and the comparator has 100mV of (See Datasheet)", 2 ITH "Error Amplifier Compensation Pin. The current comparator input threshold increases with this control voltage. Nominal voltage range for this pin is 0V to 1.40V.", 3 NFB (in) "Receives the feedback voltage from the external resistor divider across the output. Nominal voltage for this pin in regulation is -1.230V.", 4 FREQ (in) "A resistor from the FREQ pin to ground programs the operating frequency of the chip. The nominal voltage at the FREQ pin is 0.62V.", 5 MODE/SYNC (in) "This input controls the operating mode of the converter and allows for synchronizing the operating frequency to an external clock. If the MODE/SYNC pin is connected to ground, Burst Mode operation is enabled. If the (See Datasheet)", 6 GND (power) "Ground Pin.", 7 GATE (out) "Gate Driver Output.", 8 INTVCC (power) "The Internal 5.20V Regulator Output. The gate driver and control circuits are powered from this voltage. Decouple this pin locally to the IC ground with a minimum of 4.7uF low ESR tantalum or ceramic capacitor.", 9 VIN (power) "Main Supply Pin. Must be closely decoupled to ground.", 10 SENSE (in) "The Current Sense Input for the Control Loop. Connect this pin to the drain of the power MOSFET for VDS sensing and highest efficiency. Alternatively, the SENSE pin may be connected to a resistor in the source of the power (See Datasheet)"